# EAGLE library part EPM240T100C4 (library altera)
EPM240T100 Low-cost, low-power CPLD Auto generated by make-symbol-device-package-bsdl.ulp Rev. 35 Source: www.altera.com .. epm240-io.txt
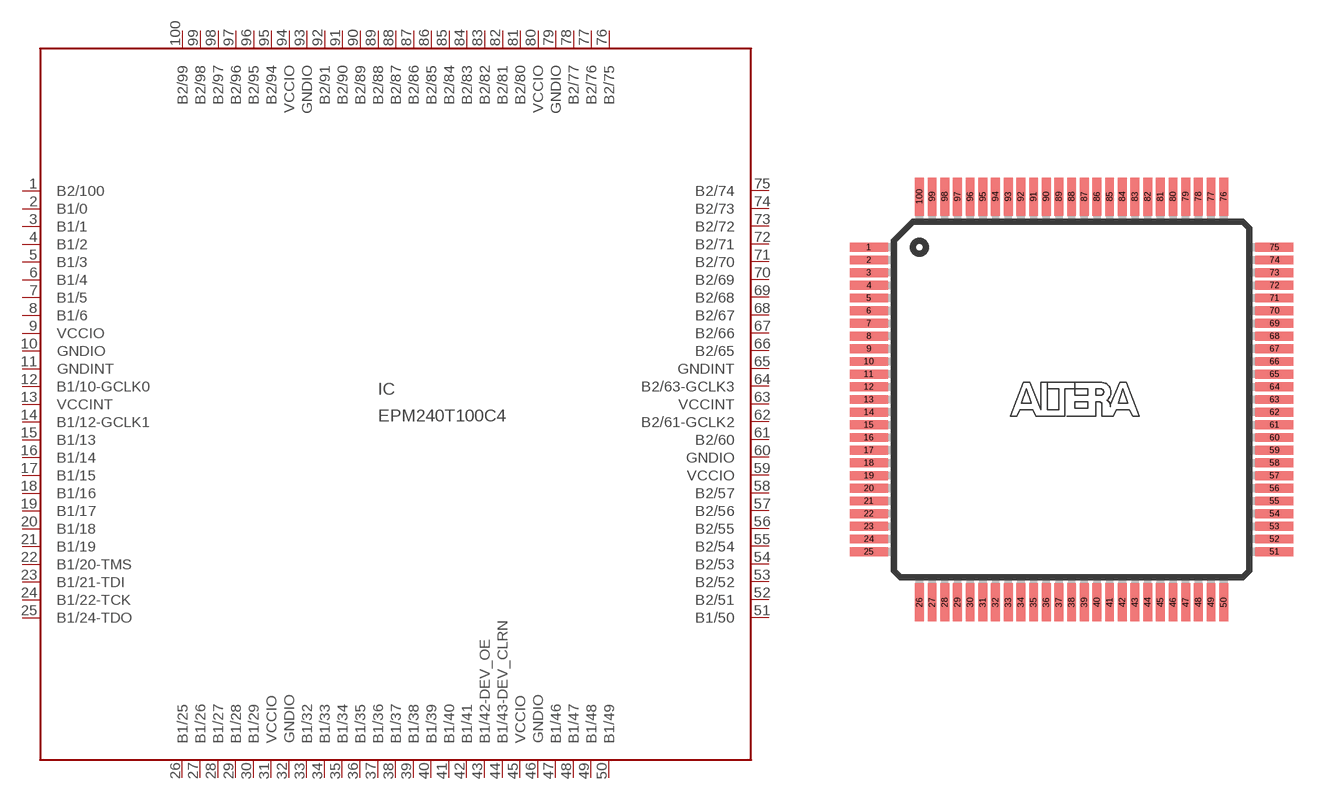
[diagram p59: symbol with the pads of TQFP100; footprint TQFP100]

Designator prefix IC

## EPM240T100C4 (MPN: EPM240T100C4; OC_FARNELL: 1453502; OC_NEWARK: 51R9357)  [TQFP100]
1  B2/100
2  B1/0
3  B1/1
4  B1/2
5  B1/3
6  B1/4
7  B1/5
8  B1/6
9  VCCIO  pwr
10  GNDIO  pwr
11  GNDINT  pwr
12  B1/10-GCLK0
13  VCCINT  pwr
14  B1/12-GCLK1
15  B1/13
16  B1/14
17  B1/15
18  B1/16
19  B1/17
20  B1/18
21  B1/19
22  B1/20-TMS  in
23  B1/21-TDI  in
24  B1/22-TCK  in
25  B1/24-TDO  out
26  B1/25
27  B1/26
28  B1/27
29  B1/28
30  B1/29
31  VCCIO  pwr
32  GNDIO  pwr
33  B1/32
34  B1/33
35  B1/34
36  B1/35
37  B1/36
38  B1/37
39  B1/38
40  B1/39
41  B1/40
42  B1/41
43  B1/42-DEV_OE
44  B1/43-DEV_CLRN
45  VCCIO  pwr
46  GNDIO  pwr
47  B1/46
48  B1/47
49  B1/48
50  B1/49
51  B1/50
52  B2/51
53  B2/52
54  B2/53
55  B2/54
56  B2/55
57  B2/56
58  B2/57
59  VCCIO  pwr
60  GNDIO  pwr
61  B2/60
62  B2/61-GCLK2
63  VCCINT  pwr
64  B2/63-GCLK3
65  GNDINT  pwr
66  B2/65
67  B2/66
68  B2/67
69  B2/68
70  B2/69
71  B2/70
72  B2/71
73  B2/72
74  B2/73
75  B2/74
76  B2/75
77  B2/76
78  B2/77
79  GNDIO  pwr
80  VCCIO  pwr
81  B2/80
82  B2/81
83  B2/82
84  B2/83
85  B2/84
86  B2/85
87  B2/86
88  B2/87
89  B2/88
90  B2/89
91  B2/90
92  B2/91
93  GNDIO  pwr
94  VCCIO  pwr
95  B2/94
96  B2/95
97  B2/96
98  B2/97
99  B2/98
100  B2/99

## Footprint TQFP100 (pad centres in mm)
Plastic Thin Quad Flat Pack
smd 1.5 x 0.35: 1 -8,6; 2 -8,5.5; 3 -8,5; 4 -8,4.5; 5 -8,4; 6 -8,3.5; 7 -8,3; 8 -8,2.5; 9 -8,2; 10 -8,1.5; 11 -8,1; 12 -8,0.5; 13 -8,0; 14 -8,-0.5; 15 -8,-1; 16 -8,-1.5; 17 -8,-2; 18 -8,-2.5; 19 -8,-3; 20 -8,-3.5; 21 -8,-4; 22 -8,-4.5; 23 -8,-5; 24 -8,-5.5; 25 -8,-6; 51 8,-6; 52 8,-5.5; 53 8,-5; 54 8,-4.5; 55 8,-4; 56 8,-3.5; 57 8,-3; 58 8,-2.5; 59 8,-2; 60 8,-1.5; 61 8,-1; 62 8,-0.5; 63 8,0; 64 8,0.5; 65 8,1; 66 8,1.5; 67 8,2; 68 8,2.5; 69 8,3; 70 8,3.5; 71 8,4; 72 8,4.5; 73 8,5; 74 8,5.5; 75 8,6
smd 0.35 x 1.5: 26 -6,-8; 27 -5.5,-8; 28 -5,-8; 29 -4.5,-8; 30 -4,-8; 31 -3.5,-8; 32 -3,-8; 33 -2.5,-8; 34 -2,-8; 35 -1.5,-8; 36 -1,-8; 37 -0.5,-8; 38 0,-8; 39 0.5,-8; 40 1,-8; 41 1.5,-8; 42 2,-8; 43 2.5,-8; 44 3,-8; 45 3.5,-8; 46 4,-8; 47 4.5,-8; 48 5,-8; 49 5.5,-8; 50 6,-8; 76 6,8; 77 5.5,8; 78 5,8; 79 4.5,8; 80 4,8; 81 3.5,8; 82 3,8; 83 2.5,8; 84 2,8; 85 1.5,8; 86 1,8; 87 0.5,8; 88 0,8; 89 -0.5,8; 90 -1,8; 91 -1.5,8; 92 -2,8; 93 -2.5,8; 94 -3,8; 95 -3.5,8; 96 -4,8; 97 -4.5,8; 98 -5,8; 99 -5.5,8; 100 -6,8